# EAGLE library part SWD_2X5 (library Ooo-Connectors)
SWD Connector Standard 0.05" 10-pin connector.
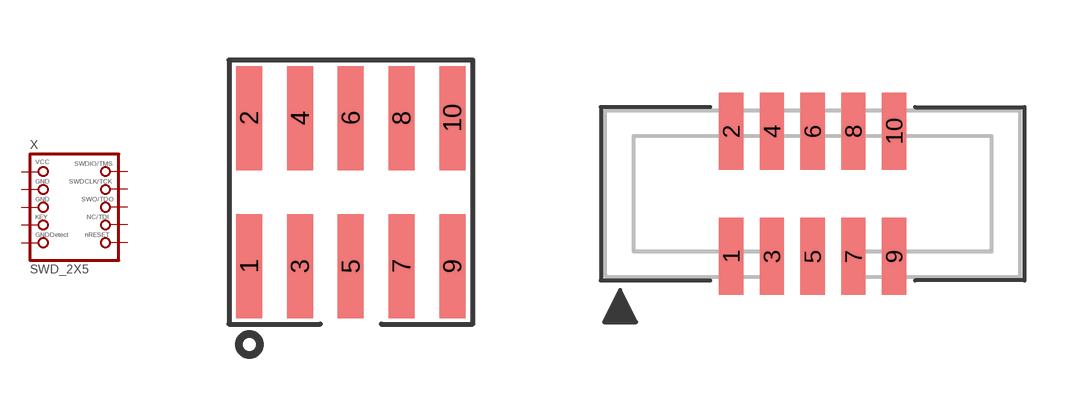
[diagram p1: symbol with the pads of SWD_MINI; footprints SWD_MINI, SWD_SHROUD]

Designator prefix X

## SWD_2X5  [SWD_MINI]
1  VCC  pwr
2  SWDIO
3  GND  pwr
4  SWDCLK
5  GND  pwr
6  SWO
7  KEY
8  TDI
9  GNDDETECT
10  NRESET

## SWD_2X5BOX  [SWD_SHROUD]
Pads as for SWD_MINI

## SWD_2X5BOXPOSTS  [SWD_SHROUD_POSTS]
Pads as for SWD_MINI

## Footprint SWD_MINI (pad centres in mm)
Adafruit PID 4048
smd 0.65 x 2.6: 1 -2.54,-1.85; 2 -2.54,1.85; 3 -1.27,-1.85; 4 -1.27,1.85; 5 0,-1.85; 6 0,1.85; 7 1.27,-1.85; 8 1.27,1.85; 9 2.54,-1.85; 10 2.54,1.85

## Footprint SWD_SHROUD (pad centres in mm)
4UCon: 19735 (with cap), 15117 (without caps)
smd 0.76 x 2.4: 1 -2.54,-1.95; 2 -2.54,1.95; 3 -1.27,-1.95; 4 -1.27,1.95; 5 0,-1.95; 6 0,1.95; 7 1.27,-1.95; 8 1.27,1.95; 9 2.54,-1.95; 10 2.54,1.95

## Footprint SWD_SHROUD_POSTS (pad centres in mm)
4UCon: 20317
smd 0.76 x 2.6: 1 -2.54,-2.15; 2 -2.54,2.15; 3 -1.27,-2.15; 4 -1.27,2.15; 5 0,-2.15; 6 0,2.15; 7 1.27,-2.15; 8 1.27,2.15; 9 2.54,-2.15; 10 2.54,2.15
hole 1 at -1.905,0
hole 1 at 1.905,0